# EAGLE library part ENC424J600 (library Microchip)
Stand-Alone 10/100 Ethernet Controller
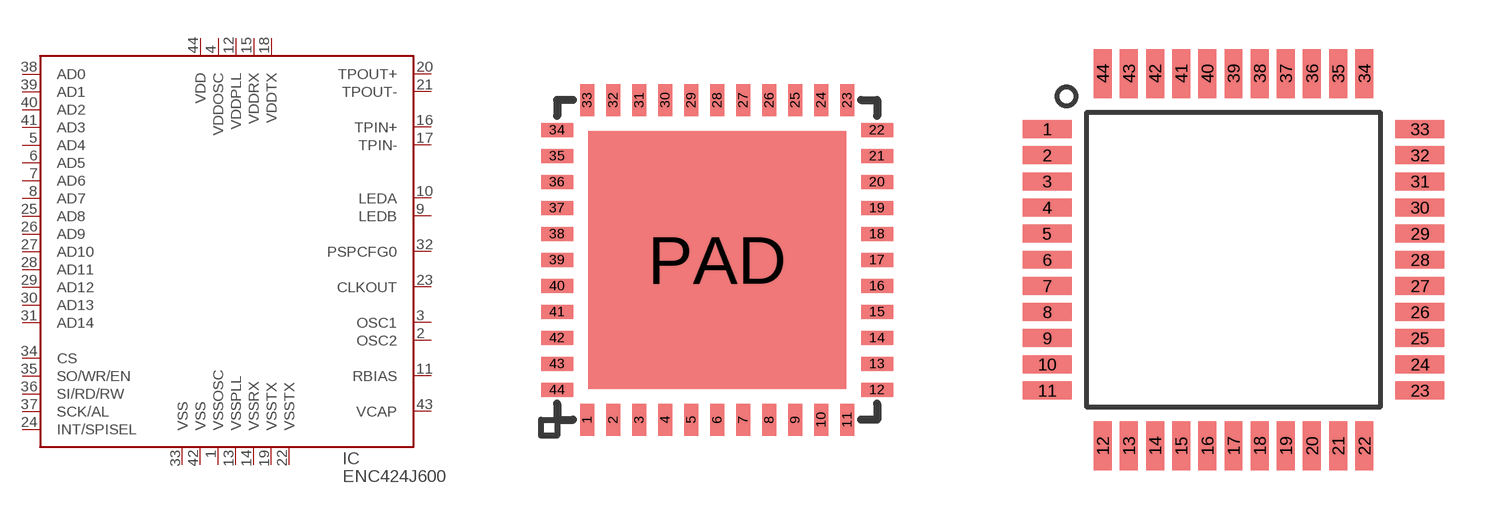
[diagram p33: symbol with the pads of QFN44-ML; footprints QFN44-ML, TQ44-PT]

Designator prefix IC

## ENC424J600-ML  [QFN44-ML]
1  VSSOSC
2  OSC2
3  OSC1
4  VDDOSC
5  AD4
6  AD5
7  AD6
8  AD7
9  LEDB
10  LEDA
11  RBIAS
12  VDDPLL
13  VSSPLL
14  VSSRX
15  VDDRX
16  TPIN+
17  TPIN-
18  VDDTX
19  VSSTX
20  TPOUT+
21  TPOUT-
22  VSSTX
23  CLKOUT
24  INT/SPISEL
25  AD8
26  AD9
27  AD10
28  AD11
29  AD12
30  AD13
31  AD14
32  PSPCFG0
33  VSS
34  CS
35  SO/WR/EN
36  SI/RD/RW
37  SCK/AL
38  AD0
39  AD1
40  AD2
41  AD3
42  VSS
43  VCAP
44  VDD

## ENC424J600-PT  [TQ44-PT]
Pads as for QFN44-ML

## Footprint QFN44-ML (pad centres in mm)
44 Lead Plastic Quad Flat, No Lead Package (QFN), Microchip package ML
smd 0.35 x 0.8: 1 -3.25,-4; 2 -2.6,-4; 3 -1.95,-4; 4 -1.3,-4; 5 -0.65,-4; 6 0,-4; 7 0.65,-4; 8 1.3,-4; 9 1.95,-4; 10 2.6,-4; 11 3.25,-4; 23 3.25,4; 24 2.6,4; 25 1.95,4; 26 1.3,4; 27 0.65,4; 28 0,4; 29 -0.65,4; 30 -1.3,4; 31 -1.95,4; 32 -2.6,4; 33 -3.25,4
smd 0.8 x 0.35: 12 4,-3.25; 13 4,-2.6; 14 4,-1.95; 15 4,-1.3; 16 4,-0.65; 17 4,0; 18 4,0.65; 19 4,1.3; 20 4,1.95; 21 4,2.6; 22 4,3.25; 34 -4,3.25; 35 -4,2.6; 36 -4,1.95; 37 -4,1.3; 38 -4,0.65; 39 -4,0; 40 -4,-0.65; 41 -4,-1.3; 42 -4,-1.95; 43 -4,-2.6; 44 -4,-3.25
smd 6.45 x 6.45: PAD 0,0

## Footprint TQ44-PT (pad centres in mm)
44-Lead Plastic Thin Quad Flatpack (PT) - 10x10x1 mm Body
smd 1.5 x 0.55: 1 -5.7,4; 2 -5.7,3.2; 3 -5.7,2.4; 4 -5.7,1.6; 5 -5.7,0.8; 6 -5.7,0; 7 -5.7,-0.8; 8 -5.7,-1.6; 9 -5.7,-2.4; 10 -5.7,-3.2; 11 -5.7,-4; 23 5.7,-4; 24 5.7,-3.2; 25 5.7,-2.4; 26 5.7,-1.6; 27 5.7,-0.8; 28 5.7,0; 29 5.7,0.8; 30 5.7,1.6; 31 5.7,2.4; 32 5.7,3.2; 33 5.7,4
smd 0.55 x 1.5: 12 -4,-5.7; 13 -3.2,-5.7; 14 -2.4,-5.7; 15 -1.6,-5.7; 16 -0.8,-5.7; 17 0,-5.7; 18 0.8,-5.7; 19 1.6,-5.7; 20 2.4,-5.7; 21 3.2,-5.7; 22 4,-5.7; 34 4,5.7; 35 3.2,5.7; 36 2.4,5.7; 37 1.6,5.7; 38 0.8,5.7; 39 0,5.7; 40 -0.8,5.7; 41 -1.6,5.7; 42 -2.4,5.7; 43 -3.2,5.7; 44 -4,5.7